# EAGLE library part DC/DC_QUARTER_BRICK_MURATA (library HyTech)
24V DC/DC Converter
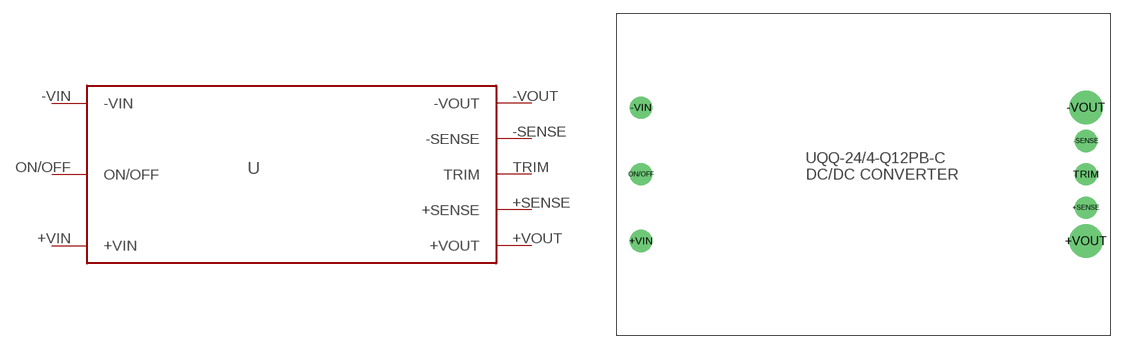
[diagram p9: symbol with the pads of DC/DC-QUARTER_BRICK_MURATA; footprint DC/DC-QUARTER_BRICK_MURATA]

Designator prefix -

## DC/DC_QUARTER_BRICK_MURATA  [DC/DC-QUARTER_BRICK_MURATA]
+SENSE  +SENSE
+VIN  +VIN
+VOUT  +VOUT
-SENSE  -SENSE
-VIN  -VIN
-VOUT  -VOUT
ON/OFF  ON/OFF
TRIM  TRIM

## Footprint DC/DC-QUARTER_BRICK_MURATA (pad centres in mm)
drill 1.016 pad 2.54: +SENSE 53.594,14.605; +VIN 2.794,10.795; -SENSE 53.594,22.225; -VIN 2.794,26.035; ON/OFF 2.794,18.415; TRIM 53.594,18.415
drill 1.575 pad 3.81: +VOUT 53.594,10.795; -VOUT 53.594,26.035